# EAGLE library part BMP280 (library BMP280)
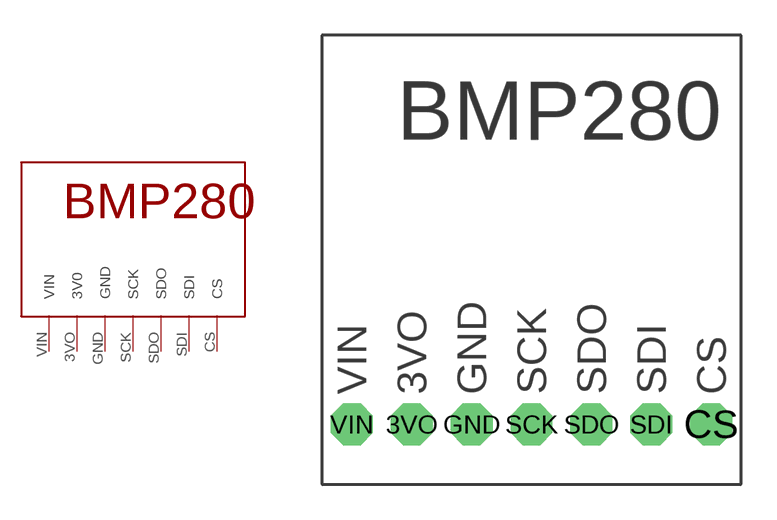
[diagram p0: symbol with the pads of BMP280; footprint BMP280]

Designator prefix -

## BMP280  [BMP280]
3VO  3V0
CS  CS
GND  GND
SCK  SCK
SDI  SDI
SDO  SDO
VIN  VIN

## Footprint BMP280 (pad centres in mm)
drill 1 pad 1.778 octagon: 3VO 3.81,2.54; CS 16.51,2.54; GND 6.35,2.54; SCK 8.89,2.54; SDI 13.97,2.54; SDO 11.43,2.54; VIN 1.27,2.54